# Altium footprint library OLED_128X32.PcbLib: 1 footprints
Each footprint in its own frame and in the unit in brackets; x right, y up, seen from the top. Pads: shape width x height; smd on the part's side, far side on the other; paste and mask are expansions set on the pad; w line width, h text height; cw(c..) or ccw(c..) is an arc to the next point about the centre after c.
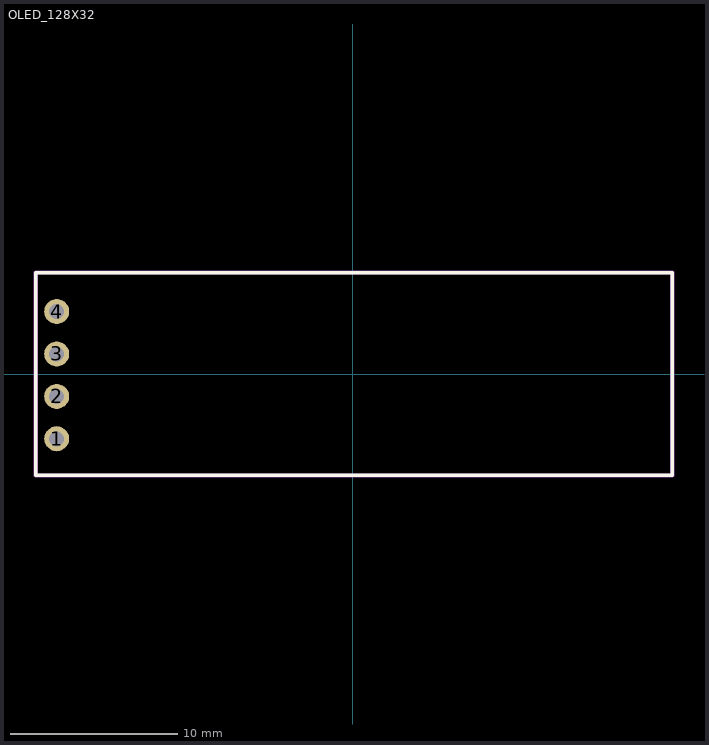
[diagram p0: the footprint, top view; thin cyan lines are the x and y axes]

## OLED_128X32 [mm]
pads (4):
  round 1.5 hole 0.9: 1(-17.725,-3.855) 2(-17.725,-1.315) 3(-17.725,1.225) 4(-17.725,3.765)
Top Overlay:
  lines w0.2: -18.975,-6.05 19.15,-6.05 19.15,6.1 -18.975,6.1 -18.975,-6.05
Top Assembly:
  lines w0.254: -18.975,-6.05 -18.975,6.1 19.15,6.1 19.15,-6.05 -18.975,-6.05
  text "'.Designator'" at 0,0 h0.7
3D body "128x32-OLED.STEP": height 6.3, standoff -5.64, extent -19,-6 19,6